# Altium integrated library Linear Technology Power Management Supercapacitor Chargers.IntLib: 96 symbols (part 8 of 8)
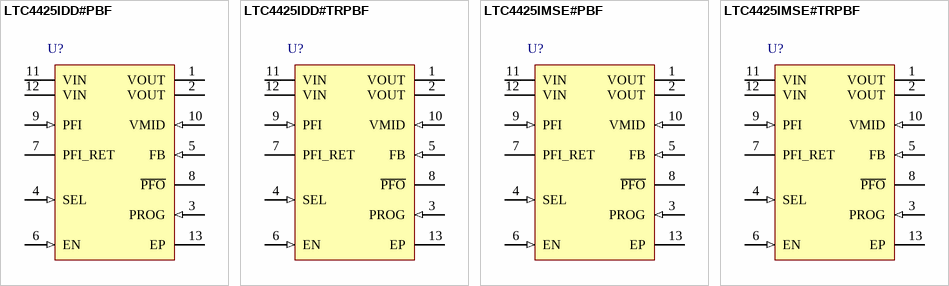
[diagram p10: symbols LTC4425IDD#PBF to LTC4425IMSE#TRPBF]

## LTC4425IMSE#PBF
designator U?
Linear SuperCap Charger with Current-Limited Ideal Diode and V/I Monitor, 2.7 to 5.5 V Vin, 5.5 V Vout MAX, 12-pin SOP (MSE-12-EDP), -40 to 125 degC, Pb-Free; Manufacturer: Linear Technology; PartNumber: LTC4425IMSE#PBF; PackageVersion: Rev. G, 05/2013; PackageReference: MSE-12-EDP; PackageDescription: 12-Pin Plastic MSOP, Exposed Die Pad, Body 4.039 x 3 mm, Pitch 0.65 mm; Supplier 1: Digi-Key; Supplier Part Number 1: LTC4425IMSE#PBF-ND; Supplier 2: Newark; Supplier Part Number 2: 13T8426; RoHS: TRUE; Topology: Linear; Mounting Technology: Surface Mount; ComponentLink1Description: Manufacturer URL; ComponentLink1URL: http://www.linear.com/; ComponentLink2Description: Datasheet; ComponentLink2URL: http://cds.linear.com/docs/en/datasheet/4425f.pdf; ComponentLink3Description: Package Specification; ComponentLink3URL: http://cds.linear.com/docs/en/packaging/05081666_G_MSE12.pdf
footprint LT-MSE-12-EDP_N (SOP, 12-Leads, Body 4.1x3.1mm, Pitch 0.65mm, Thermal Pad 2.95x1.76mm, IPC Medium Density)
footprint LT-MSE-12-EDP_L (SOP, 12-Leads, Body 4.1x3.1mm, Pitch 0.65mm, Thermal Pad 2.95x1.76mm, IPC High Density)
footprint LT-MSE-12-EDP_M (SOP, 12-Leads, Body 4.1x3.1mm, Pitch 0.65mm, Thermal Pad 2.95x1.76mm, IPC Low Density)
pins: 1 VOUT (power) "Output Pin of the Charger. Typically connects to the top of the 2-cell supercap stack.", 2 VOUT (power) "Output Pin of the Charger. Typically connects to the top of the 2-cell supercap stack.", 3 PROG (in) "Charge Current Program and Charge Current Monitor Pin. A resistor connected from PROG to ground programs the charge current. In LDO mode, this pin always servos to 1V. However, if the charge current profile is turned on, (See Datasheet)", 4 SEL (in) "Logic Input to Select One of the Two Possible Clamp Voltages (VCLAMP). If the pin is a logic low, the maximum voltage across any supercap of the stack is 2.45V. If the pin is a logic high, it is 2.7V. Do not float this pin.", 5 FB (in) "In LDO mode, output voltage is programmed by a resistor divider from VOUT via the FB pin. In this mode, the voltage on this pin always servos to the internal reference voltage of 1.2V. If the FB pin is pulled up to VIN, the (See Datasheet)", 6 EN (in) "Digital Input to Enable the Charger. If this pin is a logic high, the part is enabled and it draws only 20uA of quiescent current from the input or output when idle. If this pin is a logic low, the part is in shutdown mode (See Datasheet)", 7 PFI_RET (oc) "This pin connects to the bottom of the external resistor divider for the input power-fail comparator. In shutdown mode, an internal switch opens up this path to reduce the current drawn by the resistor divider.", 8 ~{PFO} (hiz) "Open Drain Output of the Power-Fail Comparator. This pin is driven to logic low if at least one of the following conditions is true: (1) VIN is less than a value programmed by an external divider via PFI, (2) VOUT has not (See Datasheet)", 9 PFI (in) "Input to the Power-Fail Comparator. The input voltage below which P\F\O\ pin indicates a power-fail condition can be programmed by connecting this pin to an external resistor divider between VIN and PFI_RET pin.", 10 VMID (in) "Connects to the Midpoint of the 2-Cell supercap stack. An internal leakage balancing amplifier drives this pin to a voltage which is exactly half of VOUT.", 11 VIN (power) "Input Power Pin. Typically connected to a DC source like a Li-Ion/Polymer battery or a USB port. This pin should be bypassed with a low-ESR ceramic capacitor.", 12 VIN (power) "Input Power Pin. Typically connected to a DC source like a Li-Ion/Polymer battery or a USB port. This pin should be bypassed with a low-ESR ceramic capacitor.", 13 EP (power) "GND. The Exposed Pad should be connected to a continuous ground plane on the second layer of the printed circuit board by several vias directly under the part to achieve optimum thermal conduction."

## LTC4425IMSE#TRPBF
designator U?
Linear SuperCap Charger with Current-Limited Ideal Diode and V/I Monitor, 2.7 to 5.5 V Vin, 5.5 V Vout MAX, 12-pin SOP (MSE-12-EDP), -40 to 125 degC, Pb-Free, Tape and Reel; Manufacturer: Linear Technology; PartNumber: LTC4425IMSE#TRPBF; PackageVersion: Rev. G, 05/2013; PackageReference: MSE-12-EDP; PackageDescription: 12-Pin Plastic MSOP, Exposed Die Pad, Body 4.039 x 3 mm, Pitch 0.65 mm; Supplier 1: Digi-Key; Supplier Part Number 1: LTC4425IMSE#TRPBF-ND; Packing: Tape and Reel; RoHS: TRUE; Topology: Linear; Mounting Technology: Surface Mount; ComponentLink1Description: Manufacturer URL; ComponentLink1URL: http://www.linear.com/; ComponentLink2Description: Datasheet; ComponentLink2URL: http://cds.linear.com/docs/en/datasheet/4425f.pdf; ComponentLink3Description: Package Specification; ComponentLink3URL: http://cds.linear.com/docs/en/packaging/05081666_G_MSE12.pdf
footprint LT-MSE-12-EDP_N (SOP, 12-Leads, Body 4.1x3.1mm, Pitch 0.65mm, Thermal Pad 2.95x1.76mm, IPC Medium Density)
footprint LT-MSE-12-EDP_L (SOP, 12-Leads, Body 4.1x3.1mm, Pitch 0.65mm, Thermal Pad 2.95x1.76mm, IPC High Density)
footprint LT-MSE-12-EDP_M (SOP, 12-Leads, Body 4.1x3.1mm, Pitch 0.65mm, Thermal Pad 2.95x1.76mm, IPC Low Density)
pins: 1 VOUT (power) "Output Pin of the Charger. Typically connects to the top of the 2-cell supercap stack.", 2 VOUT (power) "Output Pin of the Charger. Typically connects to the top of the 2-cell supercap stack.", 3 PROG (in) "Charge Current Program and Charge Current Monitor Pin. A resistor connected from PROG to ground programs the charge current. In LDO mode, this pin always servos to 1V. However, if the charge current profile is turned on, (See Datasheet)", 4 SEL (in) "Logic Input to Select One of the Two Possible Clamp Voltages (VCLAMP). If the pin is a logic low, the maximum voltage across any supercap of the stack is 2.45V. If the pin is a logic high, it is 2.7V. Do not float this pin.", 5 FB (in) "In LDO mode, output voltage is programmed by a resistor divider from VOUT via the FB pin. In this mode, the voltage on this pin always servos to the internal reference voltage of 1.2V. If the FB pin is pulled up to VIN, the (See Datasheet)", 6 EN (in) "Digital Input to Enable the Charger. If this pin is a logic high, the part is enabled and it draws only 20uA of quiescent current from the input or output when idle. If this pin is a logic low, the part is in shutdown mode (See Datasheet)", 7 PFI_RET (oc) "This pin connects to the bottom of the external resistor divider for the input power-fail comparator. In shutdown mode, an internal switch opens up this path to reduce the current drawn by the resistor divider.", 8 ~{PFO} (hiz) "Open Drain Output of the Power-Fail Comparator. This pin is driven to logic low if at least one of the following conditions is true: (1) VIN is less than a value programmed by an external divider via PFI, (2) VOUT has not (See Datasheet)", 9 PFI (in) "Input to the Power-Fail Comparator. The input voltage below which P\F\O\ pin indicates a power-fail condition can be programmed by connecting this pin to an external resistor divider between VIN and PFI_RET pin.", 10 VMID (in) "Connects to the Midpoint of the 2-Cell supercap stack. An internal leakage balancing amplifier drives this pin to a voltage which is exactly half of VOUT.", 11 VIN (power) "Input Power Pin. Typically connected to a DC source like a Li-Ion/Polymer battery or a USB port. This pin should be bypassed with a low-ESR ceramic capacitor.", 12 VIN (power) "Input Power Pin. Typically connected to a DC source like a Li-Ion/Polymer battery or a USB port. This pin should be bypassed with a low-ESR ceramic capacitor.", 13 EP (power) "GND. The Exposed Pad should be connected to a continuous ground plane on the second layer of the printed circuit board by several vias directly under the part to achieve optimum thermal conduction."